# Altium footprint library IC.PcbLib: 83 footprints (part 6 of 6)
Each footprint in its own frame and in the unit in brackets; x right, y up, seen from the top. Pads: shape width x height; smd on the part's side, far side on the other; paste and mask are expansions set on the pad; w line width, h text height; cw(c..) or ccw(c..) is an arc to the next point about the centre after c.
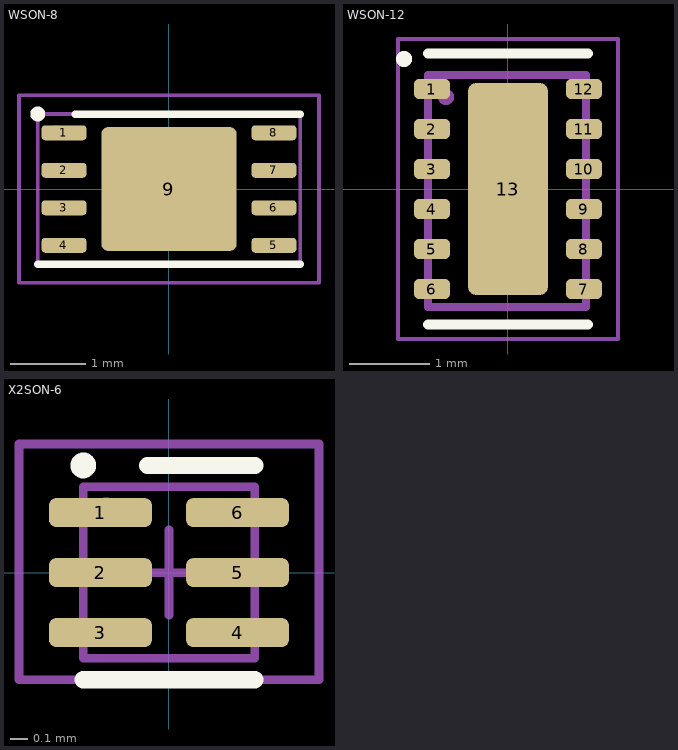
[diagram p5: the footprints below, top view; thin cyan lines are the x and y axes]

## WSON-8 [mm]
pads (9):
  rrect50% 0.6x0.2 smd paste-0.016: 1(-1.4,0.75) 2(-1.4,0.25) 3(-1.4,-0.25) 4(-1.4,-0.75) 5(1.4,-0.75) 6(1.4,-0.25) 7(1.4,0.25) 8(1.4,0.75)
  rrect10% 1.8x1.65 smd paste-0.194: 9(0,0)
Top Overlay:
  circle w0.1: c-1.75,1 r0.05
  lines w0.1: -1.75,-1 1.75,-1 ; -1.25,1 1.75,1
Top Assembly:
  circle w0.1: c-1.5,0.75 r0.05
  lines w0.05: -1.75,-1 1.75,-1 1.75,1 -1.75,1 -1.75,-1
  text ".Designator" at -1.126,-0.113 h0.5
Top Courtyard:
  lines w0.05: -0.5,0 0,0 ; 0,-0.5 0,0 ; 0,0.5 0,0 ; 0.5,0 0,0 ; -2,-1.25 2,-1.25 2,1.25 -2,1.25 -2,-1.25
3D body "TMUX6219RQXR.stp": height 0.8, standoff 0, extent -1.475,-1.048 1.625,0.952

## WSON-12 [mm]
height 0.8
pads (13):
  rrect50% 0.45x0.25 smd: 1(-0.95,1.25) 2(-0.95,0.75) 3(-0.95,0.25) 4(-0.95,-0.25) 6(-0.95,-1.25) 7(0.95,-1.25) 8(0.95,-0.75) 9(0.95,-0.25) 10(0.95,0.25) 11(0.95,0.75) 12(0.95,1.25)
  rrect50% 0.45x0.25 smd mask+0: 5(-0.95,-0.75)
  rrect20% 1x2.65 smd mask+0: 13(0,0)
Top Overlay:
  circle w0.1: c-1.3,1.625 r0.05
  lines w0.127: -1,-1.695 1,-1.695 ; -1,1.695 1,1.695
Top Assembly:
  circle w0.1: c-0.775,1.15 r0.05
  lines w0.1: -1,-1.475 0.975,-1.475 0.975,1.425 -1,1.425 -1,-1.475
  text ".Designator" at -1.126,-0.113 h0.5
Top Courtyard:
  lines w0.05: -0.349,0 0.001,0 0.001,0.35 ; 0,-0.345 0,0.005 ; 0,0 0.35,0 ; -1.375,-1.875 1.375,-1.875 1.375,1.875 -1.375,1.875 -1.375,-1.875
3D body "step_temp.STEP": height 0.8, standoff 0, extent -1,-1.5 1,1.5

## X2SON-6 [mm]
pads (6):
  rrect50% 0.6x0.17 smd: 1(-0.4,0.35) 2(-0.4,0) 3(-0.4,-0.35) 4(0.4,-0.35) 5(0.4,0) 6(0.4,0.35)
Top Overlay:
  circle w0.1: c-0.5,0.625 r0.025
  lines w0.1: -0.5,-0.625 0.5,-0.625 ; -0.125,0.625 0.5,0.625
Top Assembly:
  circle w0.1: c-0.366,0.363 r0.024
  lines w0.05: -0.5,-0.5 -0.5,0.5 0.5,0.5 0.5,-0.5 -0.5,-0.5
  text ".Designator" at -0.674,-0.068 h0.3
Top Courtyard:
  lines w0.05: -0.25,0 0,0 ; 0,-0.25 0,0 ; 0,0.25 0,0 ; 0.25,0 0,0 ; -0.875,-0.625 0.875,-0.625 0.875,0.75 -0.875,0.75 -0.875,-0.625
3D body "SN74LVC1G04DSF2.STEP": height 0.38, standoff -0.03, extent -0.5,-0.5 0.5,0.5